# EAGLE library part PR39MF51NSZ (library BMC components)
PR39MF51NSZ Series Non-Zero Cross type,Triac output SSR PPR39MF51NSZ Series Solid State Relays (SSR) are an integration of an infrared emitting diode (IRED), a Phototriac Detector and a main output Triac. These devices are ideally suited for controlling high voltage AC loads with solid state reliability while providing 4.0kV isolation (Viso(rms)) from input to output. see http://datasheet.octopart.com/PR39MF51NSZF-Sharp-Microelectronics-datasheet-57734.pdf
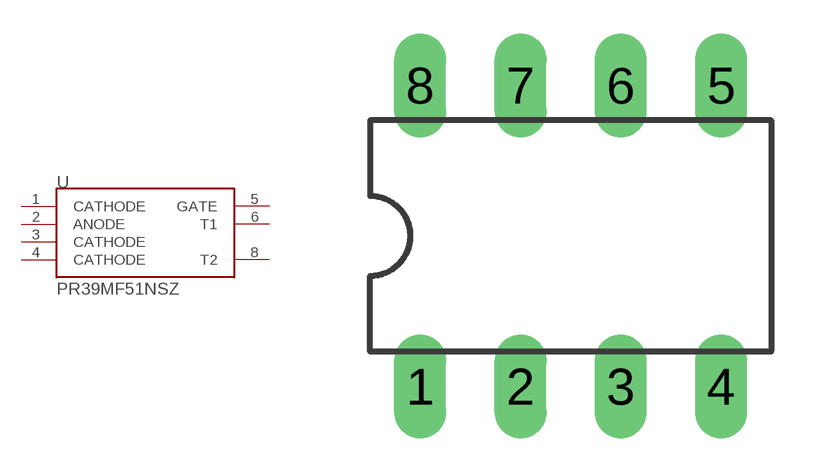
[diagram p3: symbol with the pads of DIL08; footprint DIL08]

Designator prefix -

## PR39MF51NSZ  [DIL08]
1  CATHODE
2  ANODE
3  CATHODE
4  CATHODE
5  GATE
6  T1
8  T2

## Footprint DIL08 (pad centres in mm)
drill 0.813 long: 1 1.27,-1.27; 2 3.81,-1.27; 3 6.35,-1.27; 4 8.89,-1.27; 5 8.89,6.35; 6 6.35,6.35; 7 3.81,6.35; 8 1.27,6.35